# Altium schematic symbol library Schlib2.SchLib: 1 symbol
Pins are listed as number, name and electrical type; pins without a type are passive.

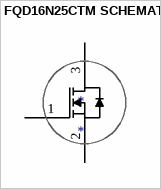
[diagram p0: symbol FQD16N25CTM SCHEMATIC]

## FQD16N25CTM SCHEMATIC
designator *
footprint DPAK228P970X238-3M (D-PAK, 3-Pads, Body 6.20x6.72mm (max), IPC Low Density)
pins: 1 21, 2 22, 3 20